# EAGLE library part SN65HVD3082EDR (library SN65HVD3082EDR-TI)
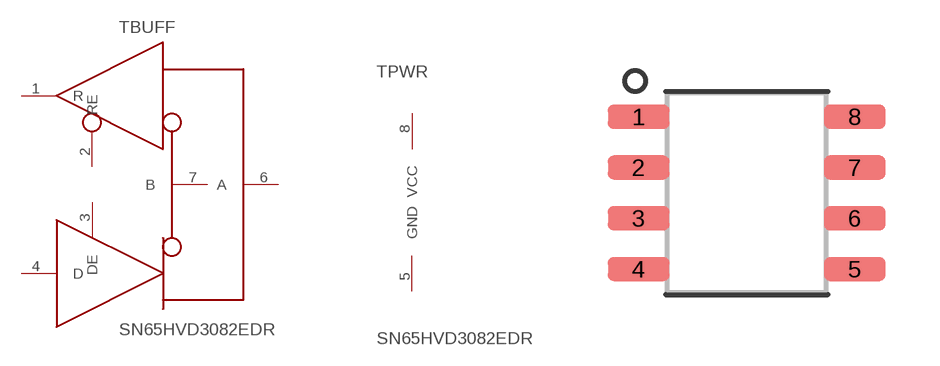
[diagram p0: symbol with the pads of 8-SOIC; footprint 8-SOIC]

Designator prefix T; gates PWR=POWER BUFF=BUFFERS

## SN65HVD3082EDR  [8-SOIC]
1  BUFF:R  out
2  BUFF:RE  in
3  BUFF:DE  in
4  BUFF:D  in
5  PWR:GND  pwr
6  BUFF:A
7  BUFF:B
8  PWR:VCC  pwr

## Footprint 8-SOIC (pad centres in mm)
smd 1.549 x 0.61: 1 -2.705,1.905; 2 -2.705,0.635; 3 -2.705,-0.635; 4 -2.705,-1.905; 5 2.705,-1.905; 6 2.705,-0.635; 7 2.705,0.635; 8 2.705,1.905